# Altium footprint library PCBLib.PcbLib: 2 footprints
Each footprint in its own frame and in the unit in brackets; x right, y up, seen from the top. Pads: shape width x height; smd on the part's side, far side on the other; paste and mask are expansions set on the pad; w line width, h text height; cw(c..) or ccw(c..) is an arc to the next point about the centre after c.
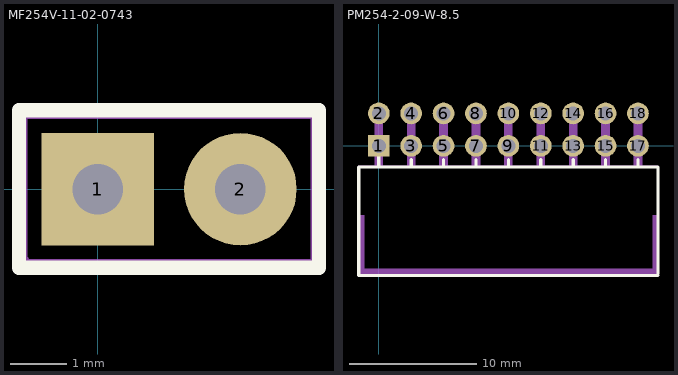
[diagram p0: the footprints below, top view; thin cyan lines are the x and y axes]

## MF254V-11-02-0743 [mm]
pads (2):
  rect 2x2 hole 0.9 paste+0 mask+0.051: 1(0,0)
  round 2 hole 0.9 paste+0 mask+0.051: 2(2.54,0)
Top Overlay:
  lines w0.254: -1.397,-1.397 -1.397,1.4 3.937,1.4 3.937,-1.397 -1.397,-1.397
Mechanical 15:
  region: 0.25,0 0.249,0.049 0.211,0.14 0.141,0.209 0.049,0.247 -0.049,0.247 -0.141,0.209 -0.211,0.14 -0.249,0.049 -0.25,0 -0.249,-0.049 -0.211,-0.14 -0.141,-0.209 -0.049,-0.247 0.049,-0.247 0.141,-0.209 0.211,-0.14 0.249,-0.049 0.25,0
  region: 2.79,0 2.789,0.049 2.751,0.14 2.681,0.209 2.589,0.247 2.491,0.247 2.399,0.209 2.329,0.14 2.291,0.049 2.29,0 2.291,-0.049 2.329,-0.14 2.399,-0.209 2.491,-0.247 2.589,-0.247 2.681,-0.209 2.751,-0.14 2.789,-0.049 2.79,0
  region: -1.21,-1.27 -1.211,-1.246 -1.246,-1.211 -1.294,-1.211 -1.329,-1.246 -1.33,-1.27 -1.329,-1.294 -1.294,-1.329 -1.246,-1.329 -1.211,-1.294 -1.21,-1.27
  lines w0.051: -1.27,-1.27 -1.27,1.27 3.81,1.27 3.81,-1.27 -1.27,-1.27

## PM254-2-09-W-8.5 [mm] "2.54mm 2.54mm Double Row 3A Copper Alloy 18P -40?~+105? 260?@5S Bend insert 2x9P Side 8.5mm Square Hole Push-Pull,P=2.54mm Female Headers ROHS"
pads (18):
  rect 1.7x1.7 hole 1.1 paste+0 mask+0.05: 1(0,0)
  round 1.7 hole 1.1 paste+0 mask+0.05: 2(0,2.54) 3(2.54,0) 4(2.54,2.54) 5(5.08,0) 6(5.08,2.54) 7(7.62,0) 8(7.62,2.54) 9(10.16,0) 10(10.16,2.54) 11(12.7,0) 12(12.7,2.54) 13(15.24,0) 14(15.24,2.54) 15(17.78,0) 16(17.78,2.54) 17(20.32,0) 18(20.32,2.54)
Top Overlay:
  lines w0.254: 0,-1.66 0,-0.127 ; 2.54,-1.66 2.54,-1.081 ; 5.08,-1.66 5.08,-1.081 ; 7.62,-1.66 7.62,-1.081 ; 10.16,-1.66 10.16,-1.081 ; 12.7,-1.66 12.7,-1.081 ; 15.24,-1.66 15.24,-1.081 ; 17.78,-1.66 17.78,-1.081 ; 20.32,-1.66 20.32,-1.081 ; 21.89,-10.16 -1.57,-10.16 -1.57,-1.66 21.89,-1.66 21.89,-10.033
Mechanical 6:
  region: -1.524,-5.461 -1.524,-10.033 21.844,-10.033 21.844,-5.461 21.463,-5.461 21.463,-9.652 -1.143,-9.652 -1.143,-5.461
Mechanical 15:
  region: -1.51,-10.067 -1.51,-10.042 -1.545,-10.007 -1.595,-10.007 -1.63,-10.042 -1.63,-10.067 -1.63,-10.091 -1.595,-10.127 -1.545,-10.127 -1.51,-10.091
  region: -0.32,0.2 0.32,0.2 0.32,-0.2 -0.32,-0.2
  region: -0.32,2.74 0.32,2.74 0.32,2.34 -0.32,2.34
  region: 2.22,0.2 2.86,0.2 2.86,-0.2 2.22,-0.2
  region: 2.22,2.74 2.86,2.74 2.86,2.34 2.22,2.34
  region: 4.76,0.2 5.4,0.2 5.4,-0.2 4.76,-0.2
  region: 4.76,2.74 5.4,2.74 5.4,2.34 4.76,2.34
  region: 7.3,0.2 7.94,0.2 7.94,-0.2 7.3,-0.2
  region: 7.3,2.74 7.94,2.74 7.94,2.34 7.3,2.34
  region: 9.84,0.2 10.48,0.2 10.48,-0.2 9.84,-0.2
  region: 9.84,2.74 10.48,2.74 10.48,2.34 9.84,2.34
  region: 12.38,0.2 13.02,0.2 13.02,-0.2 12.38,-0.2
  region: 12.38,2.74 13.02,2.74 13.02,2.34 12.38,2.34
  region: 14.92,0.2 15.56,0.2 15.56,-0.2 14.92,-0.2
  region: 14.92,2.74 15.56,2.74 15.56,2.34 14.92,2.34
  region: 17.46,0.2 18.1,0.2 18.1,-0.2 17.46,-0.2
  region: 17.46,2.74 18.1,2.74 18.1,2.34 17.46,2.34
  region: 20,0.2 20.64,0.2 20.64,-0.2 20,-0.2
  region: 20,2.74 20.64,2.74 20.64,2.34 20,2.34
  region: -0.322,-1.704 -0.322,2.746 0.318,2.746 0.318,-1.704
  region: 2.218,-1.704 2.218,2.746 2.858,2.746 2.858,-1.704
  region: 4.758,-1.704 4.758,2.746 5.398,2.746 5.398,-1.704
  region: 7.298,-1.704 7.298,2.746 7.938,2.746 7.938,-1.704
  region: 9.838,-1.704 9.838,2.746 10.478,2.746 10.478,-1.704
  region: 12.378,-1.704 12.378,2.746 13.018,2.746 13.018,-1.704
  region: 14.918,-1.704 14.918,2.746 15.558,2.746 15.558,-1.704
  region: 17.458,-1.704 17.458,2.746 18.098,2.746 18.098,-1.704
  region: 19.998,-1.704 19.998,2.746 20.638,2.746 20.638,-1.704
  lines w0.051: -1.57,-10.067 -1.57,-1.567 21.89,-1.567 21.89,-10.067 -1.57,-10.067